# EAGLE library part SOCK80* (library mita-akiba)
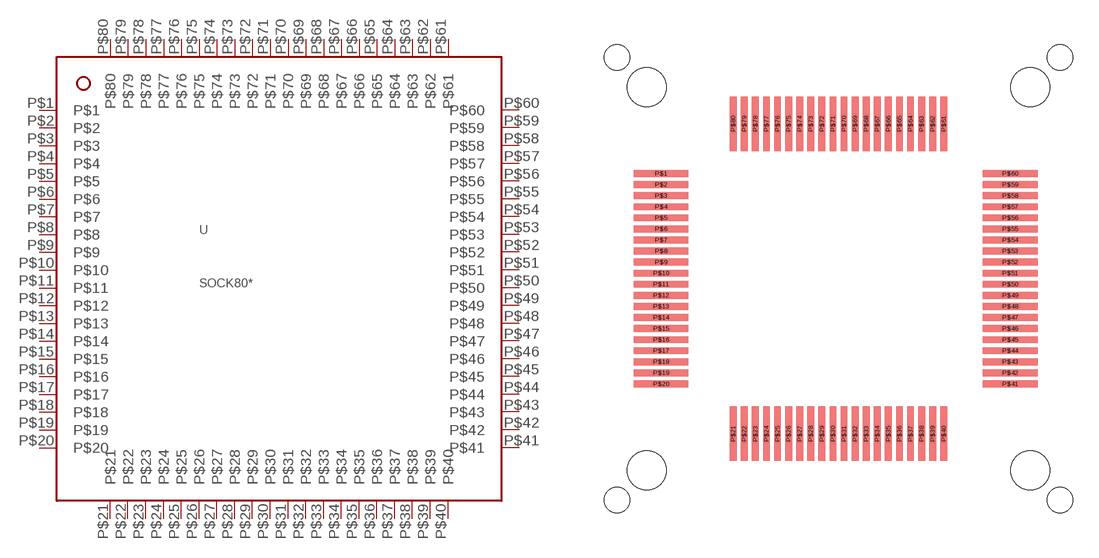
[diagram p45: symbol with the pads of SOCK80; footprint SOCK80]

Designator prefix -

## SOCK80  [SOCK80]
P$1  P$1
P$2  P$2
P$3  P$3
P$4  P$4
P$5  P$5
P$6  P$6
P$7  P$7
P$8  P$8
P$9  P$9
P$10  P$10
P$11  P$11
P$12  P$12
P$13  P$13
P$14  P$14
P$15  P$15
P$16  P$16
P$17  P$17
P$18  P$18
P$19  P$19
P$20  P$20
P$21  P$21
P$22  P$22
P$23  P$23
P$24  P$24
P$25  P$25
P$26  P$26
P$27  P$27
P$28  P$28
P$29  P$29
P$30  P$30
P$31  P$31
P$32  P$32
P$33  P$33
P$34  P$34
P$35  P$35
P$36  P$36
P$37  P$37
P$38  P$38
P$39  P$39
P$40  P$40
P$41  P$41
P$42  P$42
P$43  P$43
P$44  P$44
P$45  P$45
P$46  P$46
P$47  P$47
P$48  P$48
P$49  P$49
P$50  P$50
P$51  P$51
P$52  P$52
P$53  P$53
P$54  P$54
P$55  P$55
P$56  P$56
P$57  P$57
P$58  P$58
P$59  P$59
P$60  P$60
P$61  P$61
P$62  P$62
P$63  P$63
P$64  P$64
P$65  P$65
P$66  P$66
P$67  P$67
P$68  P$68
P$69  P$69
P$70  P$70
P$71  P$71
P$72  P$72
P$73  P$73
P$74  P$74
P$75  P$75
P$76  P$76
P$77  P$77
P$78  P$78
P$79  P$79
P$80  P$80

## Footprint SOCK80 (pad centres in mm)
smd 3.2 x 0.4: P$1 -10.4,6.175; P$2 -10.4,5.525; P$3 -10.4,4.875; P$4 -10.4,4.225; P$5 -10.4,3.575; P$6 -10.4,2.925; P$7 -10.4,2.275; P$8 -10.4,1.625; P$9 -10.4,0.975; P$10 -10.4,0.325; P$11 -10.4,-0.325; P$12 -10.4,-0.975; P$13 -10.4,-1.625; P$14 -10.4,-2.275; P$15 -10.4,-2.925; P$16 -10.4,-3.575; P$17 -10.4,-4.225; P$18 -10.4,-4.875; P$19 -10.4,-5.525; P$20 -10.4,-6.175; P$41 10.075,-6.175; P$42 10.075,-5.525; P$43 10.075,-4.875; P$44 10.075,-4.225; P$45 10.075,-3.575; P$46 10.075,-2.925; P$47 10.075,-2.275; P$48 10.075,-1.625; P$49 10.075,-0.975; P$50 10.075,-0.325; P$51 10.075,0.325; P$52 10.075,0.975; P$53 10.075,1.625; P$54 10.075,2.275; P$55 10.075,2.925; P$56 10.075,3.575; P$57 10.075,4.225; P$58 10.075,4.875; P$59 10.075,5.525; P$60 10.075,6.175
smd 0.4 x 3.2: P$21 -6.175,-9.1; P$22 -5.525,-9.1; P$23 -4.875,-9.1; P$24 -4.225,-9.1; P$25 -3.575,-9.1; P$26 -2.925,-9.1; P$27 -2.275,-9.1; P$28 -1.625,-9.1; P$29 -0.975,-9.1; P$30 -0.325,-9.1; P$31 0.325,-9.1; P$32 0.975,-9.1; P$33 1.625,-9.1; P$34 2.275,-9.1; P$35 2.925,-9.1; P$36 3.575,-9.1; P$37 4.225,-9.1; P$38 4.875,-9.1; P$39 5.525,-9.1; P$40 6.175,-9.1; P$61 6.175,9.1; P$62 5.525,9.1; P$63 4.875,9.1; P$64 4.225,9.1; P$65 3.575,9.1; P$66 2.925,9.1; P$67 2.275,9.1; P$68 1.625,9.1; P$69 0.975,9.1; P$70 0.325,9.1; P$71 -0.325,9.1; P$72 -0.975,9.1; P$73 -1.625,9.1; P$74 -2.275,9.1; P$75 -2.925,9.1; P$76 -3.575,9.1; P$77 -4.225,9.1; P$78 -4.875,9.1; P$79 -5.525,9.1; P$80 -6.175,9.1
hole 2.3 at 11.25,-11.25
hole 2.3 at -11.25,-11.25
hole 2.3 at 11.25,11.25
hole 2.3 at -11.25,11.25
hole 1.5 at 13,-13
hole 1.5 at -13,-13
hole 1.5 at 13,13
hole 1.5 at -13,13